# Altium footprint library CCZynq.PcbLib: 35 footprints (part 3 of 3)
Each footprint in its own frame and in the unit in brackets; x right, y up, seen from the top. Pads: shape width x height; smd on the part's side, far side on the other; paste and mask are expansions set on the pad; w line width, h text height; cw(c..) or ccw(c..) is an arc to the next point about the centre after c.
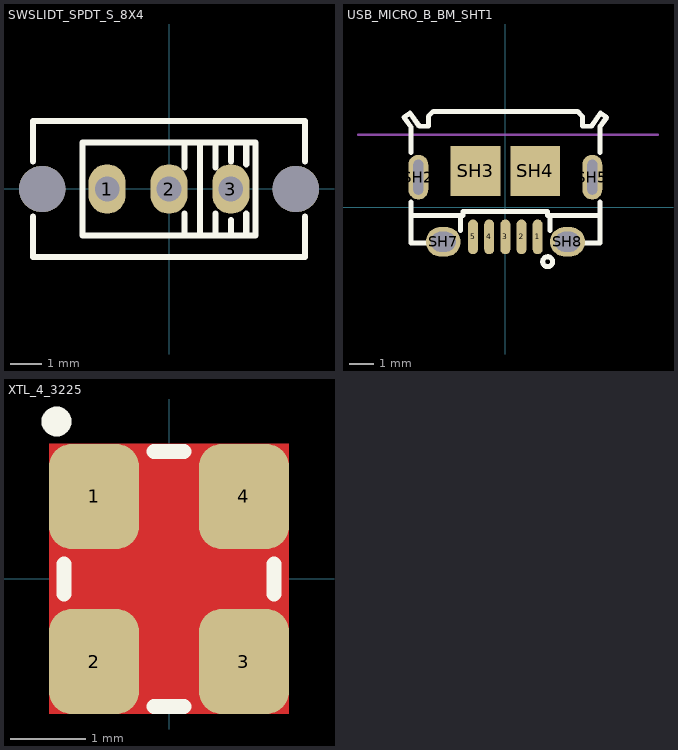
[diagram p2: the footprints below, top view; thin cyan lines are the x and y axes]

## SWSLIDT_SPDT_S_8X4 [mm]
pads (5):
  oval 1.2x1.6 hole 0.8: 1(-2,0) 2(0,0) 3(2,0)
  round 1.5 hole 1.5 unplated: ""(-4.1,0) ""(4.1,0)
Top Overlay:
  lines w0.2: -4.4,-0.9 -4.4,-2.2 4.4,-2.2 4.4,-0.9 ; -4.4,0.9 -4.4,2.2 4.4,2.2 4.4,0.9 ; 0.5,-1.5 0.5,-0.8 ; 0.5,0.7 0.5,1.5 ; 1,-1.5 1,1.5 ; 1.5,-1.5 1.5,-0.8 ; 1.5,0.7 1.5,1.5 ; 2,-1.5 2,-1 ; 2,0.9 2,1.5 ; 2.5,-1.5 2.5,-0.8 ; 2.5,0.8 2.5,1.5 ; -2.8,-1.5 -2.8,1.5 2.8,1.5 2.8,-1.5 -2.8,-1.5
3D body "OS102011MS2QN1.stp": height 8.8, standoff -2.7, extent -4.3,-2.15 4.3,2.15

## USB_MICRO_B_BM_SHT1 [mm]
pads (11):
  oval 0.4x1.4 smd: 1(1.3,-1.2) 2(0.65,-1.2) 3(0,-1.2) 4(-0.65,-1.2) 5(-1.3,-1.2)
  oval 0.8x1.8 hole 0.4 slot 1.4 at 90 deg: SH2(-3.5,1.2) SH5(3.5,1.2)
  rect 2x2 smd: SH3(-1.2,1.45) SH4(1.2,1.45)
  oval 1.4x1.2 hole 0.8 slot 1 at 0 deg mask+0.05: SH7(-2.5,-1.4) SH8(2.5,-1.4)
Top Overlay:
  circle w0.2: c1.7,-2.2 r0.2
  lines w0.2: -3.8,-0.35 -1.7,-0.35 -1.7,-0.186 0,-0.186 1.7,-0.186 1.7,-0.35 3.8,-0.35 ; -3.8,0.2 -3.8,-1.45 -2.9,-1.45 ; -3.8,2.2 -3.8,3.211 -4.078,3.612 -3.831,3.783 -3.462,3.25 -3.1,3.25 -3.1,3.65 -2.9,3.85 2.9,3.85 3.1,3.65 3.1,3.25 3.462,3.25 3.831,3.783 4.078,3.612 3.8,3.211 3.8,2.2 ; -1.8,-0.95 -1.8,-0.35 ; 1.8,-0.95 1.8,-0.35 ; 2.9,-1.45 3.8,-1.45 3.8,0.2
Mechanical 1:
  lines w0.1: -5.928,2.912 6.142,2.912
  text "PCB EDGE" at -1.9,3.1 h0.6
3D body "User Library-MicroUSB-B_Molex_105017-0001.step": height 2.68, standoff -0.63, extent -4.1,-1.65 4.1,3.78

## XTL_4_3225 [mm]
pads (4):
  rrect50% 1.2x1.4 smd: 1(-1,1.1) 2(-1,-1.1) 3(1,-1.1) 4(1,1.1)
Top Layer:
  pour cut-out: -1.6,1.8 -1.6,-1.8 1.6,-1.8 1.6,1.8
Top Overlay:
  circle w0.2: c-1.5,2.1 r0.1
  lines w0.2: -1.4,-0.2 -1.4,0.2 ; -0.2,-1.7 0.2,-1.7 ; -0.2,1.7 0.2,1.7 ; 1.4,-0.2 1.4,0.2
Mechanical 13:
  circle w0.1: c-0.8,1.1 r0.3
  lines w0.1: -1.3,-1.6 1.3,-1.6 1.3,1.6 -1.3,1.6 -1.3,-1.6
3D body "User Library-3225-1.step": height 0.61, standoff 0, extent -1.25,-1.6 1.25,1.6